# EAGLE library part JT-CON-PHOENIX-3.81_MC1.5/6 (library SmoothieBrainz - next round)
PHOENIX
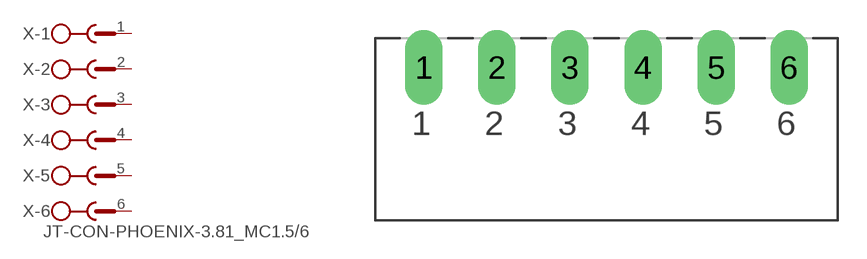
[diagram p5: symbol with the pads of JT-CON-PHOENIX-3.81_MC1.5/6-G-3.81; footprint JT-CON-PHOENIX-3.81_MC1.5/6-G-3.81]

Designator prefix X; gates -1=JT-CON-PHOENIX-3.81_SK -2=JT-CON-PHOENIX-3.81_SK -3=JT-CON-PHOENIX-3.81_SK -4=JT-CON-PHOENIX-3.81_SK -5=JT-CON-PHOENIX-3.81_SK -6=JT-CON-PHOENIX-3.81_SKV

## JT-CON-PHOENIX-3.81_MC1.5/6  [JT-CON-PHOENIX-3.81_MC1.5/6-G-3.81]
1  -1:1  pas
2  -2:1  pas
3  -3:1  pas
4  -4:1  pas
5  -5:1  pas
6  -6:1  pas

## Footprint JT-CON-PHOENIX-3.81_MC1.5/6-G-3.81 (pad centres in mm)
PHOENIX
drill 1.3 long: 1 -9.525,8; 2 -5.715,8; 3 -1.905,8; 4 1.905,8; 5 5.715,8; 6 9.525,8